# Altium schematic symbol library TNPW0603120KBEEA.SchLib: 1 symbol
Pins are listed as number, name and electrical type; pins without a type are passive.

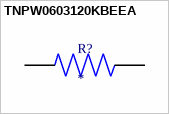
[diagram p0: symbol TNPW0603120KBEEA]

## TNPW0603120KBEEA
designator R?
MF: {'manufacturer': u'Vishay'}; MP: TNPW0603120KBEEA; Package: None; Price: None; Value: *; Availability: Unavailable
footprint RESC1508X55N
pins: 1, 2